# EAGLE library part TM4C1294NCPDT (library MRDT-Microcontrollers)
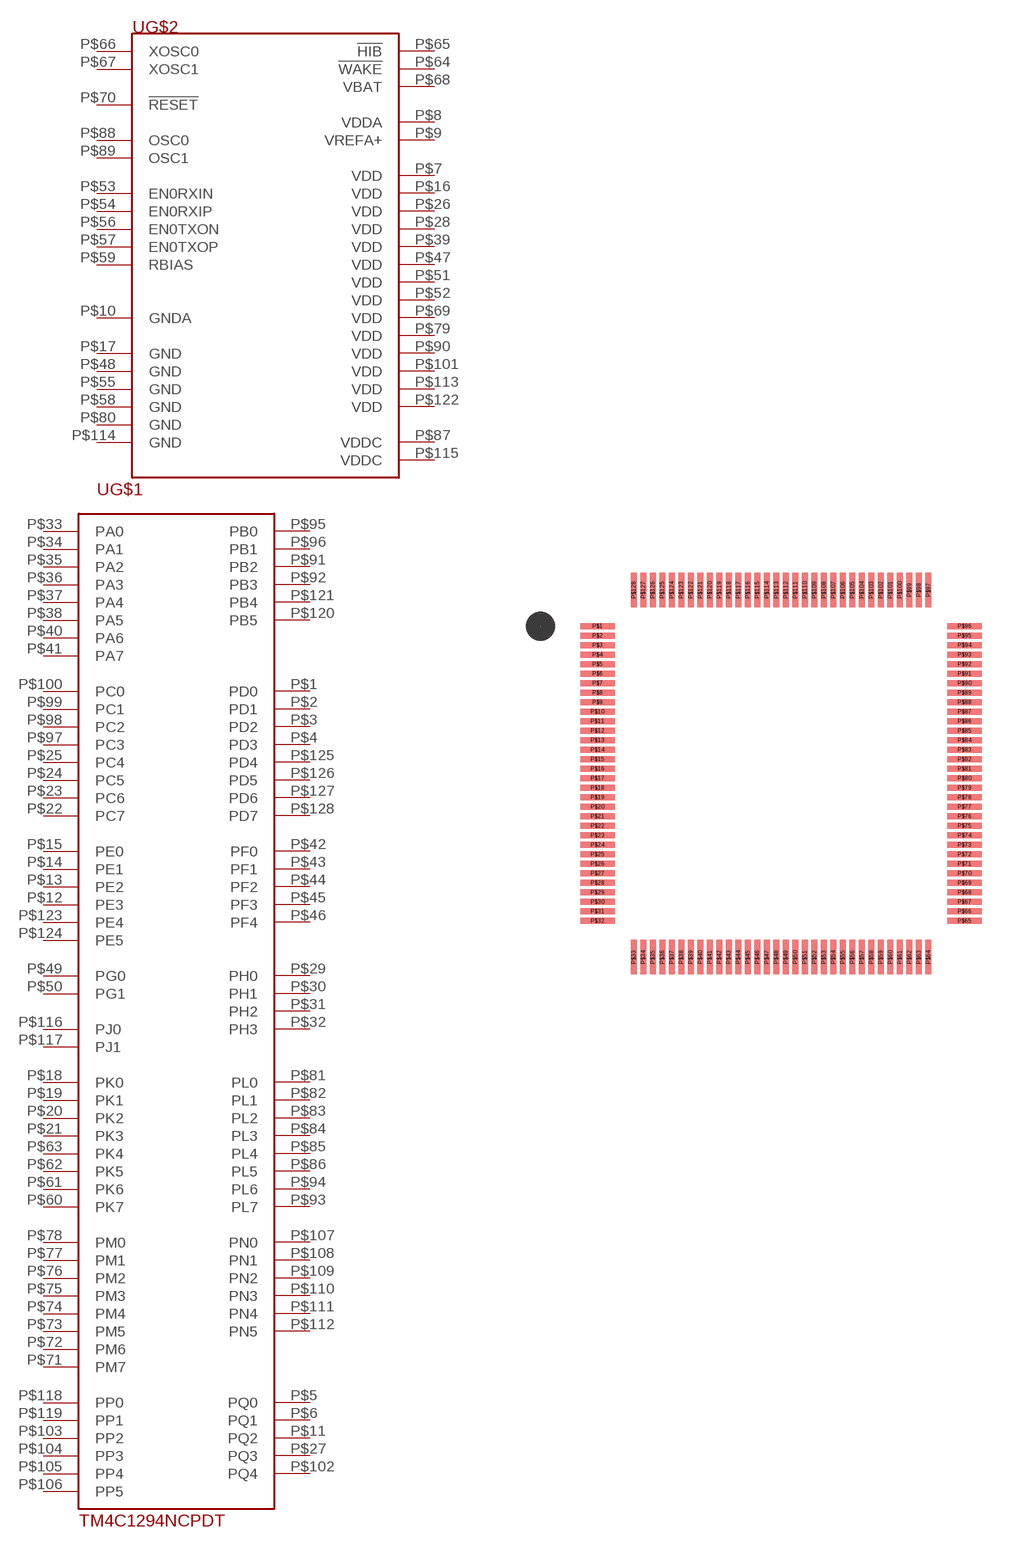
[diagram p3: symbol with the pads of TQFP-128; footprint TQFP-128]

Designator prefix U; gates G$1=TM4C1239ENCPD G$2=TM4C129ENCPD_PWR

## TM4C1294NCPDT  [TQFP-128]
P$1  G$1:PD0
P$2  G$1:PD1
P$3  G$1:PD2
P$4  G$1:PD3
P$5  G$1:PQ0
P$6  G$1:PQ1
P$7  G$2:VDD
P$8  G$2:VDDA
P$9  G$2:VREFA+
P$10  G$2:GNDA
P$11  G$1:PQ2
P$12  G$1:PE3
P$13  G$1:PE2
P$14  G$1:PE1
P$15  G$1:PE0
P$16  G$2:VDD
P$17  G$2:GND
P$18  G$1:PK0
P$19  G$1:PK1
P$20  G$1:PK2
P$21  G$1:PK3
P$22  G$1:PC7
P$23  G$1:PC6
P$24  G$1:PC5
P$25  G$1:PC4
P$26  G$2:VDD
P$27  G$1:PQ3
P$28  G$2:VDD
P$29  G$1:PH0
P$30  G$1:PH1
P$31  G$1:PH2
P$32  G$1:PH3
P$33  G$1:PA0
P$34  G$1:PA1
P$35  G$1:PA2
P$36  G$1:PA3
P$37  G$1:PA4
P$38  G$1:PA5
P$39  G$2:VDD
P$40  G$1:PA6
P$41  G$1:PA7
P$42  G$1:PF0
P$43  G$1:PF1
P$44  G$1:PF2
P$45  G$1:PF3
P$46  G$1:PF4
P$47  G$2:VDD
P$48  G$2:GND
P$49  G$1:PG0
P$50  G$1:PG1
P$51  G$2:VDD
P$52  G$2:VDD
P$53  G$2:EN0RXIN
P$54  G$2:EN0RXIP
P$55  G$2:GND
P$56  G$2:EN0TXON
P$57  G$2:EN0TXOP
P$58  G$2:GND
P$59  G$2:RBIAS
P$60  G$1:PK7
P$61  G$1:PK6
P$62  G$1:PK5
P$63  G$1:PK4
P$64  G$2:!WAKE
P$65  G$2:!HIB
P$66  G$2:XOSC0
P$67  G$2:XOSC1
P$68  G$2:VBAT
P$69  G$2:VDD
P$70  G$2:!RESET
P$71  G$1:PM7
P$72  G$1:PM6
P$73  G$1:PM5
P$74  G$1:PM4
P$75  G$1:PM3
P$76  G$1:PM2
P$77  G$1:PM1
P$78  G$1:PM0
P$79  G$2:VDD
P$80  G$2:GND
P$81  G$1:PL0
P$82  G$1:PL1
P$83  G$1:PL2
P$84  G$1:PL3
P$85  G$1:PL4
P$86  G$1:PL5
P$87  G$2:VDDC
P$88  G$2:OSC0
P$89  G$2:OSC1
P$90  G$2:VDD
P$91  G$1:PB2
P$92  G$1:PB3
P$93  G$1:PL7
P$94  G$1:PL6
P$95  G$1:PB0
P$96  G$1:PB1
P$97  G$1:PC3
P$98  G$1:PC2
P$99  G$1:PC1
P$100  G$1:PC0
P$101  G$2:VDD
P$102  G$1:PQ4
P$103  G$1:PP2
P$104  G$1:PP3
P$105  G$1:PP4
P$106  G$1:PP5
P$107  G$1:PN0
P$108  G$1:PN1
P$109  G$1:PN2
P$110  G$1:PN3
P$111  G$1:PN4
P$112  G$1:PN5
P$113  G$2:VDD
P$114  G$2:GND
P$115  G$2:VDDC
P$116  G$1:PJ0
P$117  G$1:PJ1
P$118  G$1:PP0
P$119  G$1:PP1
P$120  G$1:PB5
P$121  G$1:PB4
P$122  G$2:VDD
P$123  G$1:PE4
P$124  G$1:PE5
P$125  G$1:PD4
P$126  G$1:PD5
P$127  G$1:PD6
P$128  G$1:PD7

## Footprint TQFP-128 (pad centres in mm)
smd 1.45 x 0.25: P$1 0,0; P$2 0,-0.4; P$3 0,-0.8; P$4 0,-1.2; P$5 0,-1.6; P$6 0,-2; P$7 0,-2.4; P$8 0,-2.8; P$9 0,-3.2; P$10 0,-3.6; P$11 0,-4; P$12 0,-4.4; P$13 0,-4.8; P$14 0,-5.2; P$15 0,-5.6; P$16 0,-6; P$17 0,-6.4; P$18 0,-6.8; P$19 0,-7.2; P$20 0,-7.6; P$21 0,-8; P$22 0,-8.4; P$23 0,-8.8; P$24 0,-9.2; P$25 0,-9.6; P$26 0,-10; P$27 0,-10.4; P$28 0,-10.8; P$29 0,-11.2; P$30 0,-11.6; P$31 0,-12; P$32 0,-12.4; P$65 15.45,-12.4; P$66 15.45,-12; P$67 15.45,-11.6; P$68 15.45,-11.2; P$69 15.45,-10.8; P$70 15.45,-10.4; P$71 15.45,-10; P$72 15.45,-9.6; P$73 15.45,-9.2; P$74 15.45,-8.8; P$75 15.45,-8.4; P$76 15.45,-8; P$77 15.45,-7.6; P$78 15.45,-7.2; P$79 15.45,-6.8; P$80 15.45,-6.4; P$81 15.45,-6; P$82 15.45,-5.6; P$83 15.45,-5.2; P$84 15.45,-4.8; P$85 15.45,-4.4; P$86 15.45,-4; P$87 15.45,-3.6; P$88 15.45,-3.2; P$89 15.45,-2.8; P$90 15.45,-2.4; P$91 15.45,-2; P$92 15.45,-1.6; P$93 15.45,-1.2; P$94 15.45,-0.8; P$95 15.45,-0.4; P$96 15.45,0
smd 0.25 x 1.45: P$33 1.525,-13.925; P$34 1.925,-13.925; P$35 2.325,-13.925; P$36 2.725,-13.925; P$37 3.125,-13.925; P$38 3.525,-13.925; P$39 3.925,-13.925; P$40 4.325,-13.925; P$41 4.725,-13.925; P$42 5.125,-13.925; P$43 5.525,-13.925; P$44 5.925,-13.925; P$45 6.325,-13.925; P$46 6.725,-13.925; P$47 7.125,-13.925; P$48 7.525,-13.925; P$49 7.925,-13.925; P$50 8.325,-13.925; P$51 8.725,-13.925; P$52 9.125,-13.925; P$53 9.525,-13.925; P$54 9.925,-13.925; P$55 10.325,-13.925; P$56 10.725,-13.925; P$57 11.125,-13.925; P$58 11.525,-13.925; P$59 11.925,-13.925; P$60 12.325,-13.925; P$61 12.725,-13.925; P$62 13.125,-13.925; P$63 13.525,-13.925; P$64 13.925,-13.925; P$97 13.925,1.525; P$98 13.525,1.525; P$99 13.125,1.525; P$100 12.725,1.525; P$101 12.325,1.525; P$102 11.925,1.525; P$103 11.525,1.525; P$104 11.125,1.525; P$105 10.725,1.525; P$106 10.325,1.525; P$107 9.925,1.525; P$108 9.525,1.525; P$109 9.125,1.525; P$110 8.725,1.525; P$111 8.325,1.525; P$112 7.925,1.525; P$113 7.525,1.525; P$114 7.125,1.525; P$115 6.725,1.525; P$116 6.325,1.525; P$117 5.925,1.525; P$118 5.525,1.525; P$119 5.125,1.525; P$120 4.725,1.525; P$121 4.325,1.525; P$122 3.925,1.525; P$123 3.525,1.525; P$124 3.125,1.525; P$125 2.725,1.525; P$126 2.325,1.525; P$127 1.925,1.525; P$128 1.525,1.525